# Altium footprint library SM_R_ARRAY_8UP_1506_CONVEX.PcbLib: 1 footprints
Each footprint in its own frame and in the unit in brackets; x right, y up, seen from the top. Pads: shape width x height; smd on the part's side, far side on the other; paste and mask are expansions set on the pad; w line width, h text height; cw(c..) or ccw(c..) is an arc to the next point about the centre after c.
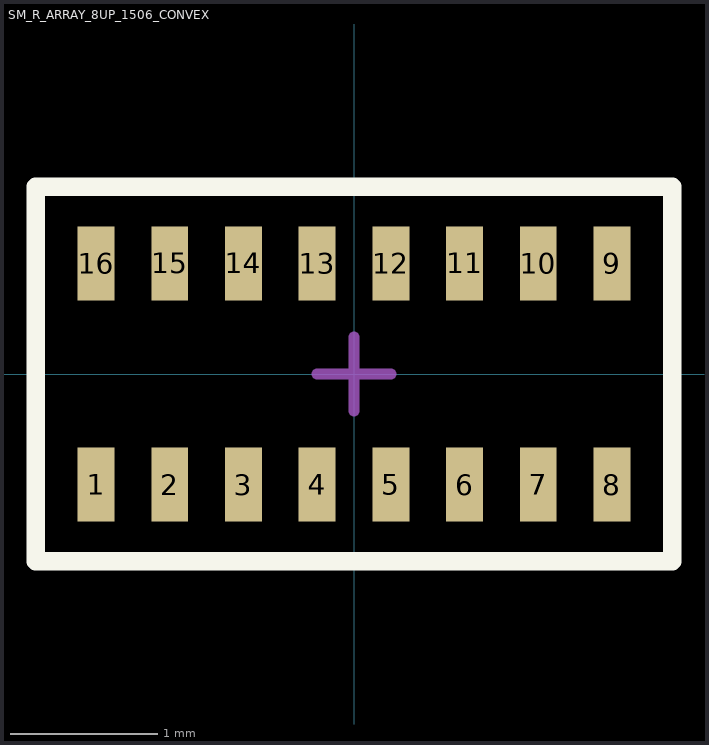
[diagram p0: the footprint, top view; thin cyan lines are the x and y axes]

## SM_R_ARRAY_8UP_1506_CONVEX [mm] "8 Up Resistor Array Convex 1506"
pads (16):
  rect 0.25x0.5 smd mask+0.076: 1(-1.75,-0.75) 2(-1.25,-0.75) 3(-0.75,-0.75) 4(-0.25,-0.75) 5(0.25,-0.75) 6(0.75,-0.75) 7(1.25,-0.75) 8(1.75,-0.75) 9(1.75,0.75) 10(1.25,0.75) 11(0.75,0.75) 12(0.25,0.75) 13(-0.25,0.75) 14(-0.75,0.75) 15(-1.25,0.75) 16(-1.75,0.75)
Top Overlay:
  lines w0.127: -2.159,-1.27 -2.159,1.27 2.159,1.27 2.159,-1.27 -2.159,-1.27
Mechanical 15:
  lines w0.076: -0.25,0 0.25,0 ; 0,-0.25 0,0.25 ; -2.159,-1.27 -2.159,1.27 2.159,1.27 2.159,-1.27 -2.159,-1.27
3D body: height 0.55, standoff 0, extent -1.902,-0.502 1.902,0.502
3D body: height 4.47, standoff -1.52, extent -1.9,0.8 -1.9,0.8
3D body: height 4.47, standoff -1.52, extent -1.9,0.8 -1.9,0.8
3D body: height 0.55, standoff 0, extent -1.9,-0.8 1.9,0.8